# Altium schematic symbol library Mounting Hole M2.SchLib: 1 symbol
Pins are listed as number, name and electrical type; pins without a type are passive.

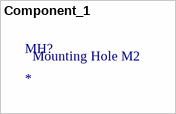
[diagram p0: symbol Component_1]

## Component_1
designator MH?
footprint PCBComponent_1
text: Mounting Hole M2